# Altium schematic symbol library OPA4188.SchLib: 1 symbol
Pins are listed as number, name and electrical type; pins without a type are passive.

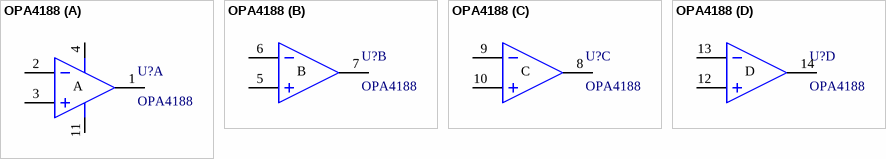
[diagram p0: symbol OPA4188]

## OPA4188
designator U?
Quad Op-Aamp
footprint Model Name (Footprint not found)
part A pins: 1 OUT, 2 IN-, 3 IN+, 4 V+ (power), 11 V- (power)
part B pins: 5 IN+, 6 IN-, 7 OUT
part C pins: 8 OUT, 9 IN-, 10 IN+
part D pins: 12 IN+, 13 IN-, 14 OUT
part A text: A
part B text: B
part C text: C
part D text: D